# Altium footprint library AD8217_Currentsense.PcbLib: 2 footprints
Each footprint in its own frame and in the unit in brackets; x right, y up, seen from the top. Pads: shape width x height; smd on the part's side, far side on the other; paste and mask are expansions set on the pad; w line width, h text height; cw(c..) or ccw(c..) is an arc to the next point about the centre after c.
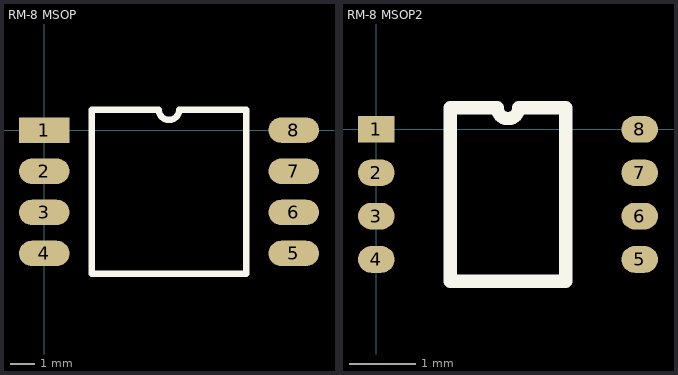
[diagram p0: the footprints below, top view; thin cyan lines are the x and y axes]

## RM-8 MSOP [mil]
pads (8):
  rect 80x40 smd: 1(0,0)
  oval 80x40 smd: 2(0,-65) 3(0,-130) 4(0,-195) 5(395,-195) 6(395,-130) 7(395,-65) 8(395,0)
Top Overlay:
  lines w10: 75,-227.5 320,-227.5 320,32.5 213.75,32.5 cw(c197.5,32.5) 181.25,32.5 75,32.5 75,-227.5

## RM-8 MSOP2 [mm]
pads (8):
  rect 0.55x0.4 smd: 1(0,0)
  oval 0.55x0.4 smd: 2(0,-0.65) 3(0,-1.3) 4(0,-1.95) 5(3.95,-1.95) 6(3.95,-1.3) 7(3.95,-0.65) 8(3.95,0)
Top Overlay:
  lines w0.2: 1.11,-2.275 1.11,0.325 1.813,0.325 ccw(c1.975,0.325) 2.137,0.325 2.84,0.325 2.84,-2.275 1.11,-2.275